# Altium integrated library WE-TPC SMD Shielded Tiny Power Inductor.IntLib: 253 symbols (part 3 of 3)
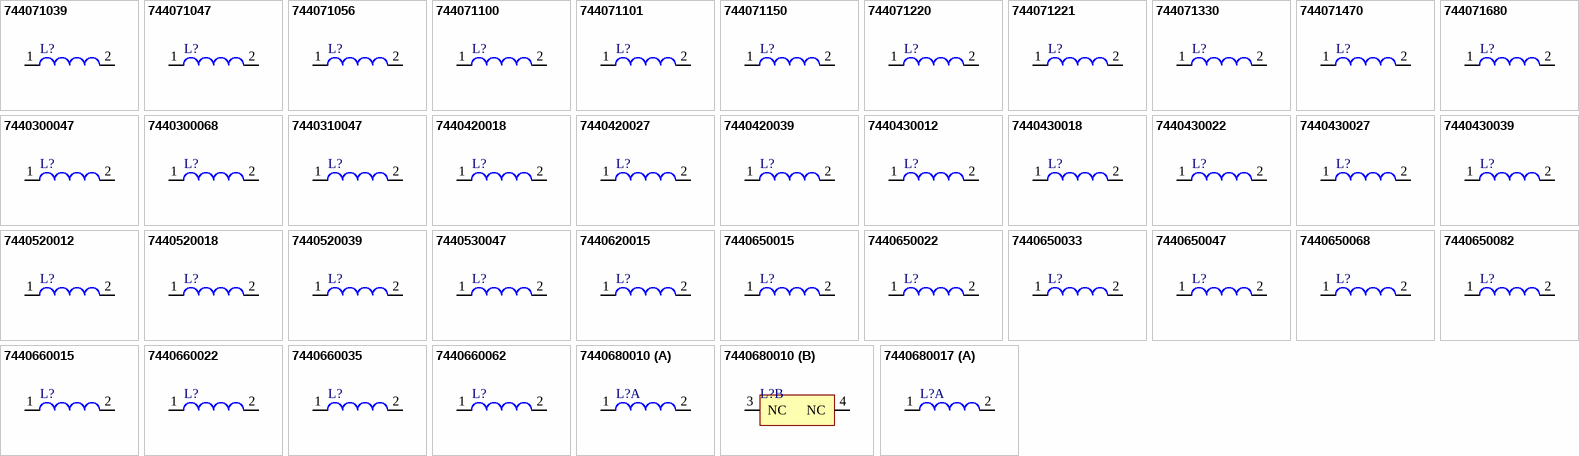
[diagram p9: symbols 744071039 to 7440680017]

## 7440660015
designator L?
SMD Shielded Tiny Power Inductor WE-TPC, L = 1.50 µH; PartNumber: 7440660015; Inductance: 1.50 µH; DatasheetVersion: ver 4, Nov-2009; PackageReference: WE-TPC-1038-XLH; PackageDescription: SMD Inductor, 2-Leads, Body 10.0 x 10.0 mm; ComponentLink1Description: Manufacturer URL; ComponentLink1URL: http://www.we-online.com; ComponentLink2Description: Datasheet; ComponentLink2URL: http://www.we-online.de/katalog/media/pdf/7440660015.pdf
footprint WE-TPC-1038-XLH (SMD Inductor, 2-Leads, Body 10.0x10.0x4.1 mm)
pins: 1, 2

## 7440660022
designator L?
SMD Shielded Tiny Power Inductor WE-TPC, L = 2.20 µH; PartNumber: 7440660022; Inductance: 2.20 µH; DatasheetVersion: ver 4, Nov-2009; PackageReference: WE-TPC-1038-XLH; PackageDescription: SMD Inductor, 2-Leads, Body 10.0 x 10.0 mm; ComponentLink1Description: Manufacturer URL; ComponentLink1URL: http://www.we-online.com; ComponentLink2Description: Datasheet; ComponentLink2URL: http://www.we-online.de/katalog/media/pdf/7440660022.pdf
footprint WE-TPC-1038-XLH (SMD Inductor, 2-Leads, Body 10.0x10.0x4.1 mm)
pins: 1, 2

## 7440660035
designator L?
SMD Shielded Tiny Power Inductor WE-TPC, L = 3.50 µH; PartNumber: 7440660035; Inductance: 3.50 µH; DatasheetVersion: ver 4, Nov-2009; PackageReference: WE-TPC-1038-XLH; PackageDescription: SMD Inductor, 2-Leads, Body 10.0 x 10.0 mm; ComponentLink1Description: Manufacturer URL; ComponentLink1URL: http://www.we-online.com; ComponentLink2Description: Datasheet; ComponentLink2URL: http://www.we-online.de/katalog/media/pdf/7440660035.pdf
footprint WE-TPC-1038-XLH (SMD Inductor, 2-Leads, Body 10.0x10.0x4.1 mm)
pins: 1, 2

## 7440660062
designator L?
SMD Shielded Tiny Power Inductor WE-TPC, L = 6.20 µH; PartNumber: 7440660062; Inductance: 6.20 µH; DatasheetVersion: ver 4, Nov-2009; PackageReference: WE-TPC-1038-XLH; PackageDescription: SMD Inductor, 2-Leads, Body 10.0 x 10.0 mm; ComponentLink1Description: Manufacturer URL; ComponentLink1URL: http://www.we-online.com; ComponentLink2Description: Datasheet; ComponentLink2URL: http://www.we-online.de/katalog/media/pdf/7440660062.pdf
footprint WE-TPC-1038-XLH (SMD Inductor, 2-Leads, Body 10.0x10.0x4.1 mm)
pins: 1, 2

## 7440680010
designator L?
SMD Shielded Tiny Power Inductor WE-TPC, L = 1.00 µH; PartNumber: 7440680010; Inductance: 1.00 µH; DatasheetVersion: ver 1, Apr-2009; PackageReference: WE-TPC-8012; PackageDescription: SMD Inductor, 2-Leads, Body 8.0 x 8.0 mm; ComponentLink1Description: Manufacturer URL; ComponentLink1URL: http://www.we-online.com; ComponentLink2Description: Datasheet; ComponentLink2URL: http://www.we-online.de/katalog/media/pdf/7440680010.pdf
footprint WE-TPC-8012 (SMD Inductor, 2-Leads, Body 8.0x8.0x1.2 mm)
part A pins: 1, 2
part B pins: 3 NC, 4 NC

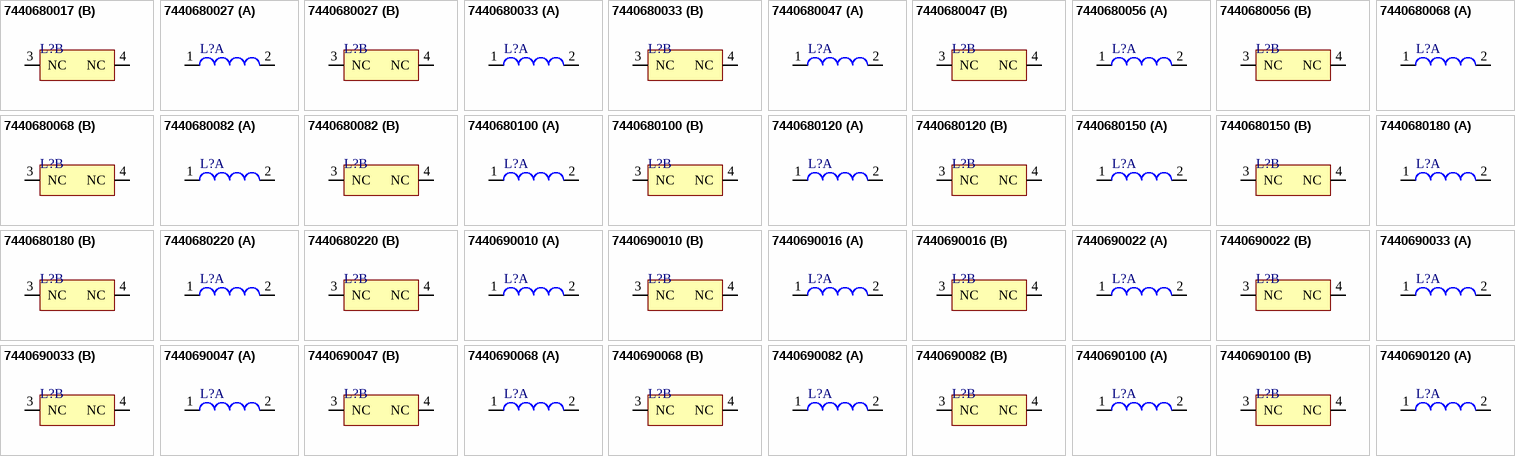
[diagram p5: symbols 7440680017 to 7440690120]

## 7440680017
designator L?
SMD Shielded Tiny Power Inductor WE-TPC, L = 1.70 µH; PartNumber: 7440680017; Inductance: 1.70 µH; DatasheetVersion: ver 1, Apr-2009; PackageReference: WE-TPC-8012; PackageDescription: SMD Inductor, 2-Leads, Body 8.0 x 8.0 mm; ComponentLink1Description: Manufacturer URL; ComponentLink1URL: http://www.we-online.com; ComponentLink2Description: Datasheet; ComponentLink2URL: http://www.we-online.de/katalog/media/pdf/7440680017.pdf
footprint WE-TPC-8012 (SMD Inductor, 2-Leads, Body 8.0x8.0x1.2 mm)
part A pins: 1, 2
part B pins: 3 NC, 4 NC

## 7440680027
designator L?
SMD Shielded Tiny Power Inductor WE-TPC, L = 2.70 µH; PartNumber: 7440680027; Inductance: 2.70 µH; DatasheetVersion: ver 1, Apr-2009; PackageReference: WE-TPC-8012; PackageDescription: SMD Inductor, 2-Leads, Body 8.0 x 8.0 mm; ComponentLink1Description: Manufacturer URL; ComponentLink1URL: http://www.we-online.com; ComponentLink2Description: Datasheet; ComponentLink2URL: http://www.we-online.de/katalog/media/pdf/7440680027.pdf
footprint WE-TPC-8012 (SMD Inductor, 2-Leads, Body 8.0x8.0x1.2 mm)
part A pins: 1, 2
part B pins: 3 NC, 4 NC

## 7440680033
designator L?
SMD Shielded Tiny Power Inductor WE-TPC, L = 3.30 µH; PartNumber: 7440680033; Inductance: 3.30 µH; DatasheetVersion: ver 1, Apr-2009; PackageReference: WE-TPC-8012; PackageDescription: SMD Inductor, 2-Leads, Body 8.0 x 8.0 mm; ComponentLink1Description: Manufacturer URL; ComponentLink1URL: http://www.we-online.com; ComponentLink2Description: Datasheet; ComponentLink2URL: http://www.we-online.de/katalog/media/pdf/7440680033.pdf
footprint WE-TPC-8012 (SMD Inductor, 2-Leads, Body 8.0x8.0x1.2 mm)
part A pins: 1, 2
part B pins: 3 NC, 4 NC

## 7440680047
designator L?
SMD Shielded Tiny Power Inductor WE-TPC, L = 4.70 µH; PartNumber: 7440680047; Inductance: 4.70 µH; DatasheetVersion: ver 1, Apr-2009; PackageReference: WE-TPC-8012; PackageDescription: SMD Inductor, 2-Leads, Body 8.0 x 8.0 mm; ComponentLink1Description: Manufacturer URL; ComponentLink1URL: http://www.we-online.com; ComponentLink2Description: Datasheet; ComponentLink2URL: http://www.we-online.de/katalog/media/pdf/7440680047.pdf
footprint WE-TPC-8012 (SMD Inductor, 2-Leads, Body 8.0x8.0x1.2 mm)
part A pins: 1, 2
part B pins: 3 NC, 4 NC

## 7440680056
designator L?
SMD Shielded Tiny Power Inductor WE-TPC, L = 5.60 µH; PartNumber: 7440680056; Inductance: 5.60 µH; DatasheetVersion: ver 1, Apr-2009; PackageReference: WE-TPC-8012; PackageDescription: SMD Inductor, 2-Leads, Body 8.0 x 8.0 mm; ComponentLink1Description: Manufacturer URL; ComponentLink1URL: http://www.we-online.com; ComponentLink2Description: Datasheet; ComponentLink2URL: http://www.we-online.de/katalog/media/pdf/7440680056.pdf
footprint WE-TPC-8012 (SMD Inductor, 2-Leads, Body 8.0x8.0x1.2 mm)
part A pins: 1, 2
part B pins: 3 NC, 4 NC

## 7440680068
designator L?
SMD Shielded Tiny Power Inductor WE-TPC, L = 6.80 µH; PartNumber: 7440680068; Inductance: 6.80 µH; DatasheetVersion: ver 1, Apr-2009; PackageReference: WE-TPC-8012; PackageDescription: SMD Inductor, 2-Leads, Body 8.0 x 8.0 mm; ComponentLink1Description: Manufacturer URL; ComponentLink1URL: http://www.we-online.com; ComponentLink2Description: Datasheet; ComponentLink2URL: http://www.we-online.de/katalog/media/pdf/7440680068.pdf
footprint WE-TPC-8012 (SMD Inductor, 2-Leads, Body 8.0x8.0x1.2 mm)
part A pins: 1, 2
part B pins: 3 NC, 4 NC

## 7440680082
designator L?
SMD Shielded Tiny Power Inductor WE-TPC, L = 8.20 µH; PartNumber: 7440680082; Inductance: 8.20 µH; DatasheetVersion: ver 1, Apr-2009; PackageReference: WE-TPC-8012; PackageDescription: SMD Inductor, 2-Leads, Body 8.0 x 8.0 mm; ComponentLink1Description: Manufacturer URL; ComponentLink1URL: http://www.we-online.com; ComponentLink2Description: Datasheet; ComponentLink2URL: http://www.we-online.de/katalog/media/pdf/7440680082.pdf
footprint WE-TPC-8012 (SMD Inductor, 2-Leads, Body 8.0x8.0x1.2 mm)
part A pins: 1, 2
part B pins: 3 NC, 4 NC

## 7440680100
designator L?
SMD Shielded Tiny Power Inductor WE-TPC, L = 10.0 µH; PartNumber: 7440680100; Inductance: 10.0 µH; DatasheetVersion: ver 1, Apr-2009; PackageReference: WE-TPC-8012; PackageDescription: SMD Inductor, 2-Leads, Body 8.0 x 8.0 mm; ComponentLink1Description: Manufacturer URL; ComponentLink1URL: http://www.we-online.com; ComponentLink2Description: Datasheet; ComponentLink2URL: http://www.we-online.de/katalog/media/pdf/7440680100.pdf
footprint WE-TPC-8012 (SMD Inductor, 2-Leads, Body 8.0x8.0x1.2 mm)
part A pins: 1, 2
part B pins: 3 NC, 4 NC

## 7440680120
designator L?
SMD Shielded Tiny Power Inductor WE-TPC, L = 12.0 µH; PartNumber: 7440680120; Inductance: 12.0 µH; DatasheetVersion: ver 1, Apr-2009; PackageReference: WE-TPC-8012; PackageDescription: SMD Inductor, 2-Leads, Body 8.0 x 8.0 mm; ComponentLink1Description: Manufacturer URL; ComponentLink1URL: http://www.we-online.com; ComponentLink2Description: Datasheet; ComponentLink2URL: http://www.we-online.de/katalog/media/pdf/7440680120.pdf
footprint WE-TPC-8012 (SMD Inductor, 2-Leads, Body 8.0x8.0x1.2 mm)
part A pins: 1, 2
part B pins: 3 NC, 4 NC

## 7440680150
designator L?
SMD Shielded Tiny Power Inductor WE-TPC, L = 15.0 µH; PartNumber: 7440680150; Inductance: 15.0 µH; DatasheetVersion: ver 1, Apr-2009; PackageReference: WE-TPC-8012; PackageDescription: SMD Inductor, 2-Leads, Body 8.0 x 8.0 mm; ComponentLink1Description: Manufacturer URL; ComponentLink1URL: http://www.we-online.com; ComponentLink2Description: Datasheet; ComponentLink2URL: http://www.we-online.de/katalog/media/pdf/7440680150.pdf
footprint WE-TPC-8012 (SMD Inductor, 2-Leads, Body 8.0x8.0x1.2 mm)
part A pins: 1, 2
part B pins: 3 NC, 4 NC

## 7440680180
designator L?
SMD Shielded Tiny Power Inductor WE-TPC, L = 18.0 µH; PartNumber: 7440680180; Inductance: 18.0 µH; DatasheetVersion: ver 1, Apr-2009; PackageReference: WE-TPC-8012; PackageDescription: SMD Inductor, 2-Leads, Body 8.0 x 8.0 mm; ComponentLink1Description: Manufacturer URL; ComponentLink1URL: http://www.we-online.com; ComponentLink2Description: Datasheet; ComponentLink2URL: http://www.we-online.de/katalog/media/pdf/7440680180.pdf
footprint WE-TPC-8012 (SMD Inductor, 2-Leads, Body 8.0x8.0x1.2 mm)
part A pins: 1, 2
part B pins: 3 NC, 4 NC

## 7440680220
designator L?
SMD Shielded Tiny Power Inductor WE-TPC, L = 22.0 µH; PartNumber: 7440680220; Inductance: 22.0 µH; DatasheetVersion: ver 1, Apr-2009; PackageReference: WE-TPC-8012; PackageDescription: SMD Inductor, 2-Leads, Body 8.0 x 8.0 mm; ComponentLink1Description: Manufacturer URL; ComponentLink1URL: http://www.we-online.com; ComponentLink2Description: Datasheet; ComponentLink2URL: http://www.we-online.de/katalog/media/pdf/7440680220.pdf
footprint WE-TPC-8012 (SMD Inductor, 2-Leads, Body 8.0x8.0x1.2 mm)
part A pins: 1, 2
part B pins: 3 NC, 4 NC

## 7440690010
designator L?
SMD Shielded Tiny Power Inductor WE-TPC, L = 1.00 µH; PartNumber: 7440690010; Inductance: 1.00 µH; DatasheetVersion: ver 1, Apr-2009; PackageReference: WE-TPC-8015; PackageDescription: SMD Inductor, 2-Leads, Body 8.0 x 8.0 mm; ComponentLink1Description: Manufacturer URL; ComponentLink1URL: http://www.we-online.com; ComponentLink2Description: Datasheet; ComponentLink2URL: http://www.we-online.de/katalog/media/pdf/7440690010.pdf
footprint WE-TPC-8015 (SMD Inductor, 2-Leads, Body 8.0x8.0x1.5 mm)
part A pins: 1, 2
part B pins: 3 NC, 4 NC

## 7440690016
designator L?
SMD Shielded Tiny Power Inductor WE-TPC, L = 1.60 µH; PartNumber: 7440690016; Inductance: 1.60 µH; DatasheetVersion: ver 1, Apr-2009; PackageReference: WE-TPC-8015; PackageDescription: SMD Inductor, 2-Leads, Body 8.0 x 8.0 mm; ComponentLink1Description: Manufacturer URL; ComponentLink1URL: http://www.we-online.com; ComponentLink2Description: Datasheet; ComponentLink2URL: http://www.we-online.de/katalog/media/pdf/7440690016.pdf
footprint WE-TPC-8015 (SMD Inductor, 2-Leads, Body 8.0x8.0x1.5 mm)
part A pins: 1, 2
part B pins: 3 NC, 4 NC

## 7440690022
designator L?
SMD Shielded Tiny Power Inductor WE-TPC, L = 2.20 µH; PartNumber: 7440690022; Inductance: 2.20 µH; DatasheetVersion: ver 1, Apr-2009; PackageReference: WE-TPC-8015; PackageDescription: SMD Inductor, 2-Leads, Body 8.0 x 8.0 mm; ComponentLink1Description: Manufacturer URL; ComponentLink1URL: http://www.we-online.com; ComponentLink2Description: Datasheet; ComponentLink2URL: http://www.we-online.de/katalog/media/pdf/7440690022.pdf
footprint WE-TPC-8015 (SMD Inductor, 2-Leads, Body 8.0x8.0x1.5 mm)
part A pins: 1, 2
part B pins: 3 NC, 4 NC

## 7440690033
designator L?
SMD Shielded Tiny Power Inductor WE-TPC, L = 3.30 µH; PartNumber: 7440690033; Inductance: 3.30 µH; DatasheetVersion: ver 1, Apr-2009; PackageReference: WE-TPC-8015; PackageDescription: SMD Inductor, 2-Leads, Body 8.0 x 8.0 mm; ComponentLink1Description: Manufacturer URL; ComponentLink1URL: http://www.we-online.com; ComponentLink2Description: Datasheet; ComponentLink2URL: http://www.we-online.de/katalog/media/pdf/7440690033.pdf
footprint WE-TPC-8015 (SMD Inductor, 2-Leads, Body 8.0x8.0x1.5 mm)
part A pins: 1, 2
part B pins: 3 NC, 4 NC

## 7440690047
designator L?
SMD Shielded Tiny Power Inductor WE-TPC, L = 4.70 µH; PartNumber: 7440690047; Inductance: 4.70 µH; DatasheetVersion: ver 1, Apr-2009; PackageReference: WE-TPC-8015; PackageDescription: SMD Inductor, 2-Leads, Body 8.0 x 8.0 mm; ComponentLink1Description: Manufacturer URL; ComponentLink1URL: http://www.we-online.com; ComponentLink2Description: Datasheet; ComponentLink2URL: http://www.we-online.de/katalog/media/pdf/7440690047.pdf
footprint WE-TPC-8015 (SMD Inductor, 2-Leads, Body 8.0x8.0x1.5 mm)
part A pins: 1, 2
part B pins: 3 NC, 4 NC

## 7440690068
designator L?
SMD Shielded Tiny Power Inductor WE-TPC, L = 6.80 µH; PartNumber: 7440690068; Inductance: 6.80 µH; DatasheetVersion: ver 1, Apr-2009; PackageReference: WE-TPC-8015; PackageDescription: SMD Inductor, 2-Leads, Body 8.0 x 8.0 mm; ComponentLink1Description: Manufacturer URL; ComponentLink1URL: http://www.we-online.com; ComponentLink2Description: Datasheet; ComponentLink2URL: http://www.we-online.de/katalog/media/pdf/7440690068.pdf
footprint WE-TPC-8015 (SMD Inductor, 2-Leads, Body 8.0x8.0x1.5 mm)
part A pins: 1, 2
part B pins: 3 NC, 4 NC

## 7440690082
designator L?
SMD Shielded Tiny Power Inductor WE-TPC, L = 8.20 µH; PartNumber: 7440690082; Inductance: 8.20 µH; DatasheetVersion: ver 1, Apr-2009; PackageReference: WE-TPC-8015; PackageDescription: SMD Inductor, 2-Leads, Body 8.0 x 8.0 mm; ComponentLink1Description: Manufacturer URL; ComponentLink1URL: http://www.we-online.com; ComponentLink2Description: Datasheet; ComponentLink2URL: http://www.we-online.de/katalog/media/pdf/7440690082.pdf
footprint WE-TPC-8015 (SMD Inductor, 2-Leads, Body 8.0x8.0x1.5 mm)
part A pins: 1, 2
part B pins: 3 NC, 4 NC

## 7440690100
designator L?
SMD Shielded Tiny Power Inductor WE-TPC, L = 10.0 µH; PartNumber: 7440690100; Inductance: 10.0 µH; DatasheetVersion: ver 1, Apr-2009; PackageReference: WE-TPC-8015; PackageDescription: SMD Inductor, 2-Leads, Body 8.0 x 8.0 mm; ComponentLink1Description: Manufacturer URL; ComponentLink1URL: http://www.we-online.com; ComponentLink2Description: Datasheet; ComponentLink2URL: http://www.we-online.de/katalog/media/pdf/7440690100.pdf
footprint WE-TPC-8015 (SMD Inductor, 2-Leads, Body 8.0x8.0x1.5 mm)
part A pins: 1, 2
part B pins: 3 NC, 4 NC

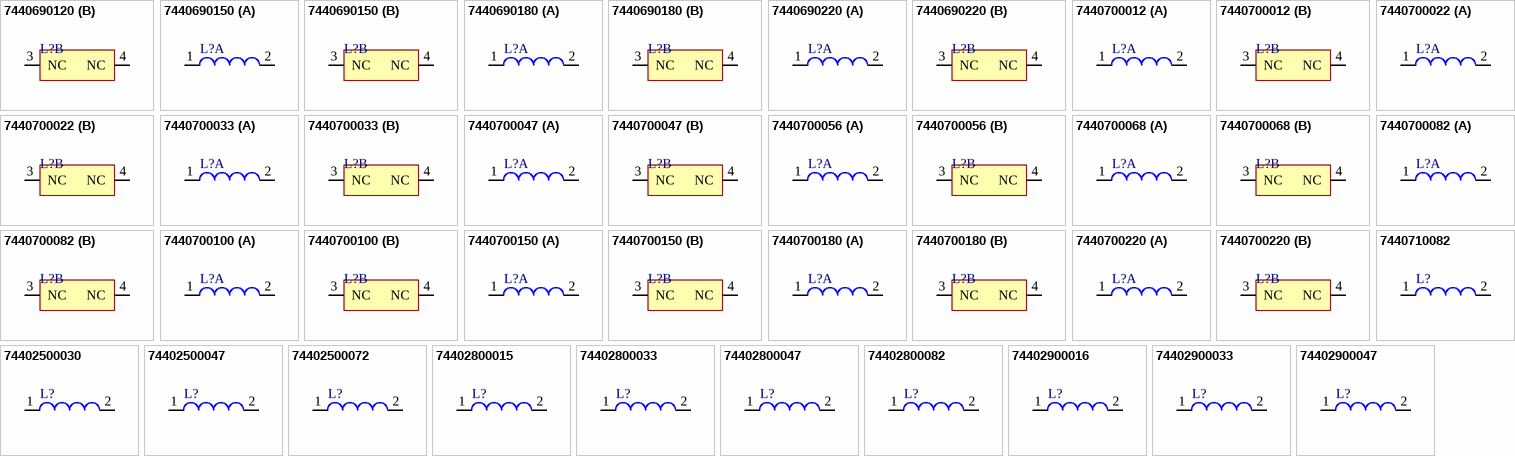
[diagram p6: symbols 7440690120 to 74402900047]

## 7440690120
designator L?
SMD Shielded Tiny Power Inductor WE-TPC, L = 12.0 µH; PartNumber: 7440690120; Inductance: 12.0 µH; DatasheetVersion: ver 1, Apr-2009; PackageReference: WE-TPC-8015; PackageDescription: SMD Inductor, 2-Leads, Body 8.0 x 8.0 mm; ComponentLink1Description: Manufacturer URL; ComponentLink1URL: http://www.we-online.com; ComponentLink2Description: Datasheet; ComponentLink2URL: http://www.we-online.de/katalog/media/pdf/7440690120.pdf
footprint WE-TPC-8015 (SMD Inductor, 2-Leads, Body 8.0x8.0x1.5 mm)
part A pins: 1, 2
part B pins: 3 NC, 4 NC

## 7440690150
designator L?
SMD Shielded Tiny Power Inductor WE-TPC, L = 15.0 µH; PartNumber: 7440690150; Inductance: 15.0 µH; DatasheetVersion: ver 1, Apr-2009; PackageReference: WE-TPC-8015; PackageDescription: SMD Inductor, 2-Leads, Body 8.0 x 8.0 mm; ComponentLink1Description: Manufacturer URL; ComponentLink1URL: http://www.we-online.com; ComponentLink2Description: Datasheet; ComponentLink2URL: http://www.we-online.de/katalog/media/pdf/7440690150.pdf
footprint WE-TPC-8015 (SMD Inductor, 2-Leads, Body 8.0x8.0x1.5 mm)
part A pins: 1, 2
part B pins: 3 NC, 4 NC

## 7440690180
designator L?
SMD Shielded Tiny Power Inductor WE-TPC, L = 18.0 µH; PartNumber: 7440690180; Inductance: 18.0 µH; DatasheetVersion: ver 1, Apr-2009; PackageReference: WE-TPC-8015; PackageDescription: SMD Inductor, 2-Leads, Body 8.0 x 8.0 mm; ComponentLink1Description: Manufacturer URL; ComponentLink1URL: http://www.we-online.com; ComponentLink2Description: Datasheet; ComponentLink2URL: http://www.we-online.de/katalog/media/pdf/7440690180.pdf
footprint WE-TPC-8015 (SMD Inductor, 2-Leads, Body 8.0x8.0x1.5 mm)
part A pins: 1, 2
part B pins: 3 NC, 4 NC

## 7440690220
designator L?
SMD Shielded Tiny Power Inductor WE-TPC, L = 22.0 µH; PartNumber: 7440690220; Inductance: 22.0 µH; DatasheetVersion: ver 1, Apr-2009; PackageReference: WE-TPC-8015; PackageDescription: SMD Inductor, 2-Leads, Body 8.0 x 8.0 mm; ComponentLink1Description: Manufacturer URL; ComponentLink1URL: http://www.we-online.com; ComponentLink2Description: Datasheet; ComponentLink2URL: http://www.we-online.de/katalog/media/pdf/7440690220.pdf
footprint WE-TPC-8015 (SMD Inductor, 2-Leads, Body 8.0x8.0x1.5 mm)
part A pins: 1, 2
part B pins: 3 NC, 4 NC

## 7440700012
designator L?
SMD Shielded Tiny Power Inductor WE-TPC, L = 1.20 µH; PartNumber: 7440700012; Inductance: 1.20 µH; DatasheetVersion: ver 4, Apr-2009; PackageReference: WE-TPC-8020-XMH; PackageDescription: SMD Inductor, 2-Leads, Body 8.0 x 8.0 mm; ComponentLink1Description: Manufacturer URL; ComponentLink1URL: http://www.we-online.com; ComponentLink2Description: Datasheet; ComponentLink2URL: http://www.we-online.de/katalog/media/pdf/7440700012.pdf
footprint WE-TPC-8020-XMH (SMD Inductor, 2-Leads, Body 8.0x8.0x2.0 mm)
part A pins: 1, 2
part B pins: 3 NC, 4 NC

## 7440700022
designator L?
SMD Shielded Tiny Power Inductor WE-TPC, L = 2.20 µH; PartNumber: 7440700022; Inductance: 2.20 µH; DatasheetVersion: ver 4, Apr-2009; PackageReference: WE-TPC-8020-XMH; PackageDescription: SMD Inductor, 2-Leads, Body 8.0 x 8.0 mm; ComponentLink1Description: Manufacturer URL; ComponentLink1URL: http://www.we-online.com; ComponentLink2Description: Datasheet; ComponentLink2URL: http://www.we-online.de/katalog/media/pdf/7440700022.pdf
footprint WE-TPC-8020-XMH (SMD Inductor, 2-Leads, Body 8.0x8.0x2.0 mm)
part A pins: 1, 2
part B pins: 3 NC, 4 NC

## 7440700033
designator L?
SMD Shielded Tiny Power Inductor WE-TPC, L = 3.30 µH; PartNumber: 7440700033; Inductance: 3.30 µH; DatasheetVersion: ver 4, Apr-2009; PackageReference: WE-TPC-8020-XMH; PackageDescription: SMD Inductor, 2-Leads, Body 8.0 x 8.0 mm; ComponentLink1Description: Manufacturer URL; ComponentLink1URL: http://www.we-online.com; ComponentLink2Description: Datasheet; ComponentLink2URL: http://www.we-online.de/katalog/media/pdf/7440700033.pdf
footprint WE-TPC-8020-XMH (SMD Inductor, 2-Leads, Body 8.0x8.0x2.0 mm)
part A pins: 1, 2
part B pins: 3 NC, 4 NC

## 7440700047
designator L?
SMD Shielded Tiny Power Inductor WE-TPC, L = 4.70 µH; PartNumber: 7440700047; Inductance: 4.70 µH; DatasheetVersion: ver 4, Apr-2009; PackageReference: WE-TPC-8020-XMH; PackageDescription: SMD Inductor, 2-Leads, Body 8.0 x 8.0 mm; ComponentLink1Description: Manufacturer URL; ComponentLink1URL: http://www.we-online.com; ComponentLink2Description: Datasheet; ComponentLink2URL: http://www.we-online.de/katalog/media/pdf/7440700047.pdf
footprint WE-TPC-8020-XMH (SMD Inductor, 2-Leads, Body 8.0x8.0x2.0 mm)
part A pins: 1, 2
part B pins: 3 NC, 4 NC

## 7440700056
designator L?
SMD Shielded Tiny Power Inductor WE-TPC, L = 5.60 µH; PartNumber: 7440700056; Inductance: 5.60 µH; DatasheetVersion: ver 4, Apr-2009; PackageReference: WE-TPC-8020-XMH; PackageDescription: SMD Inductor, 2-Leads, Body 8.0 x 8.0 mm; ComponentLink1Description: Manufacturer URL; ComponentLink1URL: http://www.we-online.com; ComponentLink2Description: Datasheet; ComponentLink2URL: http://www.we-online.de/katalog/media/pdf/7440700056.pdf
footprint WE-TPC-8020-XMH (SMD Inductor, 2-Leads, Body 8.0x8.0x2.0 mm)
part A pins: 1, 2
part B pins: 3 NC, 4 NC

## 7440700068
designator L?
SMD Shielded Tiny Power Inductor WE-TPC, L = 6.80 µH; PartNumber: 7440700068; Inductance: 6.80 µH; DatasheetVersion: ver 4, Apr-2009; PackageReference: WE-TPC-8020-XMH; PackageDescription: SMD Inductor, 2-Leads, Body 8.0 x 8.0 mm; ComponentLink1Description: Manufacturer URL; ComponentLink1URL: http://www.we-online.com; ComponentLink2Description: Datasheet; ComponentLink2URL: http://www.we-online.de/katalog/media/pdf/7440700068.pdf
footprint WE-TPC-8020-XMH (SMD Inductor, 2-Leads, Body 8.0x8.0x2.0 mm)
part A pins: 1, 2
part B pins: 3 NC, 4 NC

## 7440700082
designator L?
SMD Shielded Tiny Power Inductor WE-TPC, L = 8.20 µH; PartNumber: 7440700082; Inductance: 8.20 µH; DatasheetVersion: ver 4, Apr-2009; PackageReference: WE-TPC-8020-XMH; PackageDescription: SMD Inductor, 2-Leads, Body 8.0 x 8.0 mm; ComponentLink1Description: Manufacturer URL; ComponentLink1URL: http://www.we-online.com; ComponentLink2Description: Datasheet; ComponentLink2URL: http://www.we-online.de/katalog/media/pdf/7440700082.pdf
footprint WE-TPC-8020-XMH (SMD Inductor, 2-Leads, Body 8.0x8.0x2.0 mm)
part A pins: 1, 2
part B pins: 3 NC, 4 NC

## 7440700100
designator L?
SMD Shielded Tiny Power Inductor WE-TPC, L = 10.0 µH; PartNumber: 7440700100; Inductance: 10.0 µH; DatasheetVersion: ver 4, Apr-2009; PackageReference: WE-TPC-8020-XMH; PackageDescription: SMD Inductor, 2-Leads, Body 8.0 x 8.0 mm; ComponentLink1Description: Manufacturer URL; ComponentLink1URL: http://www.we-online.com; ComponentLink2Description: Datasheet; ComponentLink2URL: http://www.we-online.de/katalog/media/pdf/7440700100.pdf
footprint WE-TPC-8020-XMH (SMD Inductor, 2-Leads, Body 8.0x8.0x2.0 mm)
part A pins: 1, 2
part B pins: 3 NC, 4 NC

## 7440700150
designator L?
SMD Shielded Tiny Power Inductor WE-TPC, L = 15.0 µH; PartNumber: 7440700150; Inductance: 15.0 µH; DatasheetVersion: ver 4, Apr-2009; PackageReference: WE-TPC-8020-XMH; PackageDescription: SMD Inductor, 2-Leads, Body 8.0 x 8.0 mm; ComponentLink1Description: Manufacturer URL; ComponentLink1URL: http://www.we-online.com; ComponentLink2Description: Datasheet; ComponentLink2URL: http://www.we-online.de/katalog/media/pdf/7440700150.pdf
footprint WE-TPC-8020-XMH (SMD Inductor, 2-Leads, Body 8.0x8.0x2.0 mm)
part A pins: 1, 2
part B pins: 3 NC, 4 NC

## 7440700180
designator L?
SMD Shielded Tiny Power Inductor WE-TPC, L = 18.0 µH; PartNumber: 7440700180; Inductance: 18.0 µH; DatasheetVersion: ver 4, Apr-2009; PackageReference: WE-TPC-8020-XMH; PackageDescription: SMD Inductor, 2-Leads, Body 8.0 x 8.0 mm; ComponentLink1Description: Manufacturer URL; ComponentLink1URL: http://www.we-online.com; ComponentLink2Description: Datasheet; ComponentLink2URL: http://www.we-online.de/katalog/media/pdf/7440700180.pdf
footprint WE-TPC-8020-XMH (SMD Inductor, 2-Leads, Body 8.0x8.0x2.0 mm)
part A pins: 1, 2
part B pins: 3 NC, 4 NC

## 7440700220
designator L?
SMD Shielded Tiny Power Inductor WE-TPC, L = 22.0 µH; PartNumber: 7440700220; Inductance: 22.0 µH; DatasheetVersion: ver 4, Apr-2009; PackageReference: WE-TPC-8020-XMH; PackageDescription: SMD Inductor, 2-Leads, Body 8.0 x 8.0 mm; ComponentLink1Description: Manufacturer URL; ComponentLink1URL: http://www.we-online.com; ComponentLink2Description: Datasheet; ComponentLink2URL: http://www.we-online.de/katalog/media/pdf/7440700220.pdf
footprint WE-TPC-8020-XMH (SMD Inductor, 2-Leads, Body 8.0x8.0x2.0 mm)
part A pins: 1, 2
part B pins: 3 NC, 4 NC

## 7440710082
designator L?
SMD Shielded Tiny Power Inductor WE-TPC, L=0.82 µH; PartNumber: 7440710082; Inductance: 0.82 µH; PackageReference: WE-TPC 8043; ComponentLink1Description: Manufacturer URL; ComponentLink1URL: http://www.we-online.com; ComponentLink2Description: Datasheet; ComponentLink2URL: http://www.we-online.de/katalog/media/pdf/7440710082.pdf
footprint WE-TPC 8043 (SMD Inductor, 2-Leads, Body 8,0x8,0mm)
pins: 1, 2

## 74402500030
designator L?
SMD Shielded Tiny Power Inductor WE-TPC, L=0.30 µH; PartNumber: 74402500030; Inductance: 0.30 µH; PackageReference: WE-TPC 2828; ComponentLink1Description: Manufacturer URL; ComponentLink1URL: http://www.we-online.com; ComponentLink2Description: Datasheet; ComponentLink2URL: http://www.we-online.de/katalog/media/pdf/74402500030.pdf
footprint WE-TPC 2828 (SMD Inductor, 2-Leads, Body 2,8x2,8mm)
pins: 1, 2

## 74402500047
designator L?
SMD Shielded Tiny Power Inductor WE-TPC, L=0.47 µH; PartNumber: 74402500047; Inductance: 0.47 µH; PackageReference: WE-TPC 2828; ComponentLink1Description: Manufacturer URL; ComponentLink1URL: http://www.we-online.com; ComponentLink2Description: Datasheet; ComponentLink2URL: http://www.we-online.de/katalog/media/pdf/74402500047.pdf
footprint WE-TPC 2828 (SMD Inductor, 2-Leads, Body 2,8x2,8mm)
pins: 1, 2

## 74402500072
designator L?
SMD Shielded Tiny Power Inductor WE-TPC, L=0.72 µH; PartNumber: 74402500072; Inductance: 0.72 µH; PackageReference: WE-TPC 2828; ComponentLink1Description: Manufacturer URL; ComponentLink1URL: http://www.we-online.com; ComponentLink2Description: Datasheet; ComponentLink2URL: http://www.we-online.de/katalog/media/pdf/74402500072.pdf
footprint WE-TPC 2828 (SMD Inductor, 2-Leads, Body 2,8x2,8mm)
pins: 1, 2

## 74402800015
designator L?
SMD Shielded Tiny Power Inductor WE-TPC, L=0.15 µH; PartNumber: 74402800015; Inductance: 0.15 µH; PackageReference: WE-TPC-2811-T; PackageDescription: SMD Inductor, 2-Leads, Body 2.8 x 2.8 mm; ComponentLink1Description: Manufacturer URL; ComponentLink1URL: http://www.we-online.com; ComponentLink2Description: Datasheet; ComponentLink2URL: http://www.we-online.de/katalog/media/pdf/74402800015.pdf
footprint WE-TPC-2811-T (SMD Inductor, 2-Leads, Body 2.8x2.8x1.2 mm)
pins: 1, 2

## 74402800033
designator L?
SMD Shielded Tiny Power Inductor WE-TPC, L = 0.33 µH; PartNumber: 74402800033; Inductance: 0.33 µH; DatasheetVersion: ver 3, Oct-2010; PackageReference: WE-TPC-2811-T; PackageDescription: SMD Inductor, 2-Leads, Body 2.8 x 2.8 mm; ComponentLink1Description: Manufacturer URL; ComponentLink1URL: http://www.we-online.com; ComponentLink2Description: Datasheet; ComponentLink2URL: http://www.we-online.de/katalog/media/pdf/74402800033.pdf
footprint WE-TPC-2811-T (SMD Inductor, 2-Leads, Body 2.8x2.8x1.2 mm)
pins: 1, 2

## 74402800047
designator L?
SMD Shielded Tiny Power Inductor WE-TPC, L = 0.47 µH; PartNumber: 74402800047; Inductance: 0.47 µH; DatasheetVersion: ver 3, Oct-2010; PackageReference: WE-TPC-2811-T; PackageDescription: SMD Inductor, 2-Leads, Body 2.8 x 2.8 mm; ComponentLink1Description: Manufacturer URL; ComponentLink1URL: http://www.we-online.com; ComponentLink2Description: Datasheet; ComponentLink2URL: http://www.we-online.de/katalog/media/pdf/74402800047.pdf
footprint WE-TPC-2811-T (SMD Inductor, 2-Leads, Body 2.8x2.8x1.2 mm)
pins: 1, 2

## 74402800082
designator L?
SMD Shielded Tiny Power Inductor WE-TPC, L = 0.82 µH; PartNumber: 74402800082; Inductance: 0.82 µH; DatasheetVersion: ver 3, Oct-2010; PackageReference: WE-TPC-2811-T; PackageDescription: SMD Inductor, 2-Leads, Body 2.8 x 2.8 mm; ComponentLink1Description: Manufacturer URL; ComponentLink1URL: http://www.we-online.com; ComponentLink2Description: Datasheet; ComponentLink2URL: http://www.we-online.de/katalog/media/pdf/74402800082.pdf
footprint WE-TPC-2811-T (SMD Inductor, 2-Leads, Body 2.8x2.8x1.2 mm)
pins: 1, 2

## 74402900016
designator L?
SMD Shielded Tiny Power Inductor WE-TPC, L=0.16 µH; PartNumber: 74402900016; Inductance: 0.16 µH; PackageReference: WE-TPC-2813-TH; PackageDescription: SMD Inductor, 2-Leads, Body 2.8 x 2.8 mm; ComponentLink1Description: Manufacturer URL; ComponentLink1URL: http://www.we-online.com; ComponentLink2Description: Datasheet; ComponentLink2URL: http://www.we-online.de/katalog/media/pdf/74402900016.pdf
footprint WE-TPC-2813-TH (SMD Inductor, 2-Leads, Body 2.8x2.8x1.5 mm)
pins: 1, 2

## 74402900033
designator L?
SMD Shielded Tiny Power Inductor WE-TPC, L = 0.33 µH; PartNumber: 74402900033; Inductance: 0.33 µH; DatasheetVersion: ver 3, Oct-2010; PackageReference: WE-TPC-2813-TH; PackageDescription: SMD Inductor, 2-Leads, Body 2.8 x 2.8 mm; ComponentLink1Description: Manufacturer URL; ComponentLink1URL: http://www.we-online.com; ComponentLink2Description: Datasheet; ComponentLink2URL: http://www.we-online.de/katalog/media/pdf/74402900033.pdf
footprint WE-TPC-2813-TH (SMD Inductor, 2-Leads, Body 2.8x2.8x1.5 mm)
pins: 1, 2

## 74402900047
designator L?
SMD Shielded Tiny Power Inductor WE-TPC, L = 0.47 µH; PartNumber: 74402900047; Inductance: 0.47 µH; DatasheetVersion: ver 3, Oct-2010; PackageReference: WE-TPC-2813-TH; PackageDescription: SMD Inductor, 2-Leads, Body 2.8 x 2.8 mm; ComponentLink1Description: Manufacturer URL; ComponentLink1URL: http://www.we-online.com; ComponentLink2Description: Datasheet; ComponentLink2URL: http://www.we-online.de/katalog/media/pdf/74402900047.pdf
footprint WE-TPC-2813-TH (SMD Inductor, 2-Leads, Body 2.8x2.8x1.5 mm)
pins: 1, 2

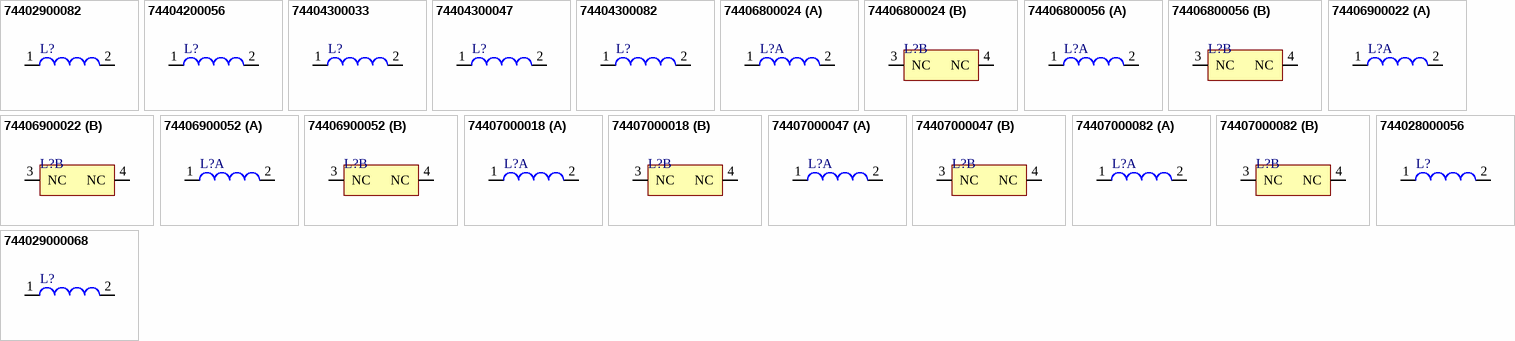
[diagram p7: symbols 74402900082 to 744029000068]

## 74402900082
designator L?
SMD Shielded Tiny Power Inductor WE-TPC, L = 0.82 µH; PartNumber: 74402900082; Inductance: 0.82 µH; DatasheetVersion: ver 3, Oct-2010; PackageReference: WE-TPC-2813-TH; PackageDescription: SMD Inductor, 2-Leads, Body 2.8 x 2.8 mm; ComponentLink1Description: Manufacturer URL; ComponentLink1URL: http://www.we-online.com; ComponentLink2Description: Datasheet; ComponentLink2URL: http://www.we-online.de/katalog/media/pdf/74402900082.pdf
footprint WE-TPC-2813-TH (SMD Inductor, 2-Leads, Body 2.8x2.8x1.5 mm)
pins: 1, 2

## 74404200056
designator L?
SMD Shielded Tiny Power Inductor WE-TPC, L=0.56 µH; PartNumber: 74404200056; Inductance: 0.56 µH; PackageReference: WE-TPC-4818-M; PackageDescription: SMD Inductor, 2-Leads, Body 4.8 x 4.8 mm; ComponentLink1Description: Manufacturer URL; ComponentLink1URL: http://www.we-online.com; ComponentLink2Description: Datasheet; ComponentLink2URL: http://www.we-online.de/katalog/media/pdf/74404200056.pdf
footprint WE-TPC-4818-M (SMD Inductor, 2-Leads, Body 4.8x4.8x2.0 mm)
pins: 1, 2

## 74404300033
designator L?
SMD Shielded Tiny Power Inductor WE-TPC, L = 0.33 µH; PartNumber: 74404300033; Inductance: 0.33 µH; DatasheetVersion: ver 6, Aug-2010; PackageReference: WE-TPC-4828-MH; PackageDescription: SMD Inductor, 2-Leads, Body 4.8 x 4.8 mm; ComponentLink1Description: Manufacturer URL; ComponentLink1URL: http://www.we-online.com; ComponentLink2Description: Datasheet; ComponentLink2URL: http://www.we-online.de/katalog/media/pdf/74404300033.pdf
footprint WE-TPC-4828-MH (SMD Inductor, 2-Leads, Body 4.8x4.8x3.0 mm)
pins: 1, 2

## 74404300047
designator L?
SMD Shielded Tiny Power Inductor WE-TPC, L = 0.47 µH; PartNumber: 74404300047; Inductance: 0.47 µH; DatasheetVersion: ver 6, Aug-2010; PackageReference: WE-TPC-4828-MH; PackageDescription: SMD Inductor, 2-Leads, Body 4.8 x 4.8 mm; ComponentLink1Description: Manufacturer URL; ComponentLink1URL: http://www.we-online.com; ComponentLink2Description: Datasheet; ComponentLink2URL: http://www.we-online.de/katalog/media/pdf/74404300047.pdf
footprint WE-TPC-4828-MH (SMD Inductor, 2-Leads, Body 4.8x4.8x3.0 mm)
pins: 1, 2

## 74404300082
designator L?
SMD Shielded Tiny Power Inductor WE-TPC, L = 0.82 µH; PartNumber: 74404300082; Inductance: 0.82 µH; DatasheetVersion: ver 6, Aug-2010; PackageReference: WE-TPC-4828-MH; PackageDescription: SMD Inductor, 2-Leads, Body 4.8 x 4.8 mm; ComponentLink1Description: Manufacturer URL; ComponentLink1URL: http://www.we-online.com; ComponentLink2Description: Datasheet; ComponentLink2URL: http://www.we-online.de/katalog/media/pdf/74404300082.pdf
footprint WE-TPC-4828-MH (SMD Inductor, 2-Leads, Body 4.8x4.8x3.0 mm)
pins: 1, 2

## 74406800024
designator L?
SMD Shielded Tiny Power Inductor WE-TPC, L = 0.24 µH; PartNumber: 74406800024; Inductance: 0.24 µH; DatasheetVersion: ver 1, Apr-2009; PackageReference: WE-TPC-8012; PackageDescription: SMD Inductor, 2-Leads, Body 8.0 x 8.0 mm; ComponentLink1Description: Manufacturer URL; ComponentLink1URL: http://www.we-online.com; ComponentLink2Description: Datasheet; ComponentLink2URL: http://www.we-online.de/katalog/media/pdf/74406800024.pdf
footprint WE-TPC-8012 (SMD Inductor, 2-Leads, Body 8.0x8.0x1.2 mm)
part A pins: 1, 2
part B pins: 3 NC, 4 NC

## 74406800056
designator L?
SMD Shielded Tiny Power Inductor WE-TPC, L = 0.56 µH; PartNumber: 74406800056; Inductance: 0.56 µH; DatasheetVersion: ver 1, Apr-2009; PackageReference: WE-TPC-8012; PackageDescription: SMD Inductor, 2-Leads, Body 8.0 x 8.0 mm; ComponentLink1Description: Manufacturer URL; ComponentLink1URL: http://www.we-online.com; ComponentLink2Description: Datasheet; ComponentLink2URL: http://www.we-online.de/katalog/media/pdf/74406800056.pdf
footprint WE-TPC-8012 (SMD Inductor, 2-Leads, Body 8.0x8.0x1.2 mm)
part A pins: 1, 2
part B pins: 3 NC, 4 NC

## 74406900022
designator L?
SMD Shielded Tiny Power Inductor WE-TPC, L = 0.22 µH; PartNumber: 74406900022; Inductance: 0.22 µH; DatasheetVersion: ver 1, Apr-2009; PackageReference: WE-TPC-8015; PackageDescription: SMD Inductor, 2-Leads, Body 8.0 x 8.0 mm; ComponentLink1Description: Manufacturer URL; ComponentLink1URL: http://www.we-online.com; ComponentLink2Description: Datasheet; ComponentLink2URL: http://www.we-online.de/katalog/media/pdf/74406900022.pdf
footprint WE-TPC-8015 (SMD Inductor, 2-Leads, Body 8.0x8.0x1.5 mm)
part A pins: 1, 2
part B pins: 3 NC, 4 NC

## 74406900052
designator L?
SMD Shielded Tiny Power Inductor WE-TPC, L = 0.52 µH; PartNumber: 74406900052; Inductance: 0.52 µH; DatasheetVersion: ver 1, Apr-2009; PackageReference: WE-TPC-8015; PackageDescription: SMD Inductor, 2-Leads, Body 8.0 x 8.0 mm; ComponentLink1Description: Manufacturer URL; ComponentLink1URL: http://www.we-online.com; ComponentLink2Description: Datasheet; ComponentLink2URL: http://www.we-online.de/katalog/media/pdf/74406900052.pdf
footprint WE-TPC-8015 (SMD Inductor, 2-Leads, Body 8.0x8.0x1.5 mm)
part A pins: 1, 2
part B pins: 3 NC, 4 NC

## 74407000018
designator L?
SMD Shielded Tiny Power Inductor WE-TPC, L = 0.18 µH; PartNumber: 74407000018; Inductance: 0.18 µH; DatasheetVersion: ver 4, Apr-2009; PackageReference: WE-TPC-8020-XMH; PackageDescription: SMD Inductor, 2-Leads, Body 8.0 x 8.0 mm; ComponentLink1Description: Manufacturer URL; ComponentLink1URL: http://www.we-online.com; ComponentLink2Description: Datasheet; ComponentLink2URL: http://www.we-online.de/katalog/media/pdf/74407000018.pdf
footprint WE-TPC-8020-XMH (SMD Inductor, 2-Leads, Body 8.0x8.0x2.0 mm)
part A pins: 1, 2
part B pins: 3 NC, 4 NC

## 74407000047
designator L?
SMD Shielded Tiny Power Inductor WE-TPC, L = 0.47 µH; PartNumber: 74407000047; Inductance: 0.47 µH; DatasheetVersion: ver 4, Apr-2009; PackageReference: WE-TPC-8020-XMH; PackageDescription: SMD Inductor, 2-Leads, Body 8.0 x 8.0 mm; ComponentLink1Description: Manufacturer URL; ComponentLink1URL: http://www.we-online.com; ComponentLink2Description: Datasheet; ComponentLink2URL: http://www.we-online.de/katalog/media/pdf/74407000047.pdf
footprint WE-TPC-8020-XMH (SMD Inductor, 2-Leads, Body 8.0x8.0x2.0 mm)
part A pins: 1, 2
part B pins: 3 NC, 4 NC

## 74407000082
designator L?
SMD Shielded Tiny Power Inductor WE-TPC, L = 0.82 µH; PartNumber: 74407000082; Inductance: 0.82 µH; DatasheetVersion: ver 4, Apr-2009; PackageReference: WE-TPC-8020-XMH; PackageDescription: SMD Inductor, 2-Leads, Body 8.0 x 8.0 mm; ComponentLink1Description: Manufacturer URL; ComponentLink1URL: http://www.we-online.com; ComponentLink2Description: Datasheet; ComponentLink2URL: http://www.we-online.de/katalog/media/pdf/74407000082.pdf
footprint WE-TPC-8020-XMH (SMD Inductor, 2-Leads, Body 8.0x8.0x2.0 mm)
part A pins: 1, 2
part B pins: 3 NC, 4 NC

## 744028000056
designator L?
SMD Shielded Tiny Power Inductor WE-TPC, L=0.056 µH; PartNumber: 744028000056; PackageReference: WE-TPC-2811-T; PackageDescription: SMD Inductor, 2-Leads, Body 2.8 x 2.8 mm; Inductance: 0.056 µH; ComponentLink1Description: Manufacturer URL; ComponentLink1URL: http://www.we-online.com; ComponentLink2Description: Datasheet; ComponentLink2URL: http://www.we-online.de/katalog/media/pdf/744028000056.pdf
footprint WE-TPC-2811-T (SMD Inductor, 2-Leads, Body 2.8x2.8x1.2 mm)
pins: 1, 2

## 744029000068
designator L?
SMD Shielded Tiny Power Inductor WE-TPC, L=0.068 µH; PartNumber: 744029000068; PackageReference: WE-TPC-2813-TH; PackageDescription: SMD Inductor, 2-Leads, Body 2.8 x 2.8 mm; Inductance: 0.068 µH; ComponentLink1Description: Manufacturer URL; ComponentLink1URL: http://www.we-online.com; ComponentLink2Description: Datasheet; ComponentLink2URL: http://www.we-online.de/katalog/media/pdf/744029000068.pdf
footprint WE-TPC-2813-TH (SMD Inductor, 2-Leads, Body 2.8x2.8x1.5 mm)
pins: 1, 2